# EAGLE library part HEADER_1X8 (library logic-supply)
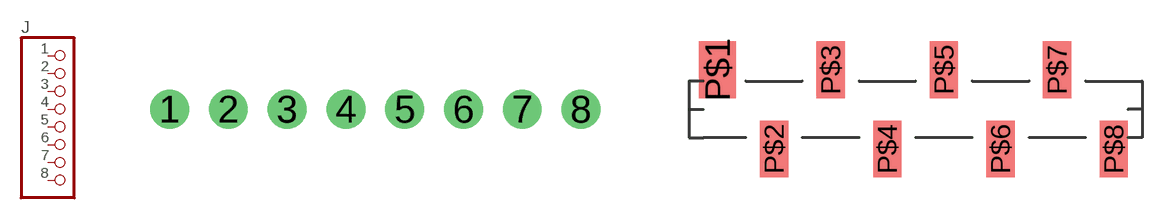
[diagram p17: symbol with the pads of HEADER_1X8; footprints HEADER_1X8, HEADER_1X8_SMD]

Designator prefix J

## HEADER_1X8-PTH  [HEADER_1X8]
1  1  pas
2  2  pas
3  3  pas
4  4  pas
5  5  pas
6  6  pas
7  7  pas
8  8  pas

## HEADER_1X8-SMD  [HEADER_1X8_SMD]
P$1  1  pas
P$2  2  pas
P$3  3  pas
P$4  4  pas
P$5  5  pas
P$6  6  pas
P$7  7  pas
P$8  8  pas

## Footprint HEADER_1X8 (pad centres in mm)
drill 1 pad 1.676: 1 -8.89,0; 2 -6.35,0; 3 -3.81,0; 4 -1.27,0; 5 1.27,0; 6 3.81,0; 7 6.35,0; 8 8.89,0

## Footprint HEADER_1X8_SMD (pad centres in mm)
JAWS SMT Single Header F1RC85S series
smd 1.651 x 2.54: P$1 -8.89,1.778
smd 1.27 x 2.54: P$2 -6.35,-1.778; P$3 -3.81,1.778; P$4 -1.27,-1.778; P$5 1.27,1.778; P$6 3.81,-1.778; P$7 6.35,1.778; P$8 8.89,-1.778